# Altium schematic symbol library Wire.SchLib: 2 symbols
Pins are listed as number, name and electrical type; pins without a type are passive.

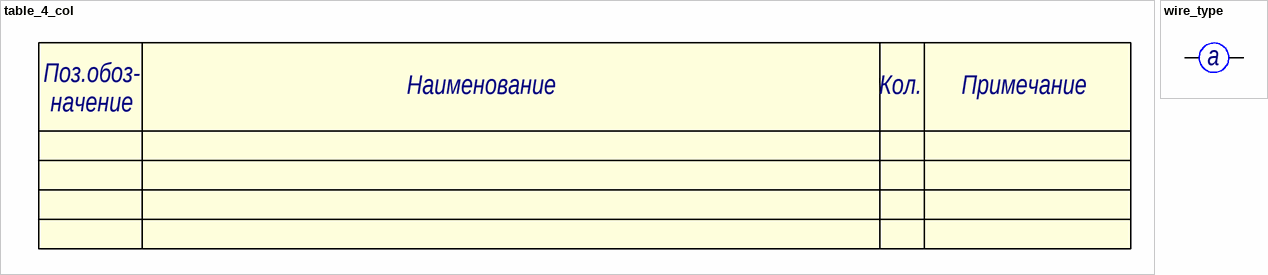
[diagram p0: symbols table_4_col to wire_type]

## table_4_col
designator ?
Табличка с данными кабеля
text: Поз.обоз-; Наименование; Кол.; Примечание; начение

## wire_type
designator ?
Обозначение типа провода
pins: 1, 2
text: a